# Altium footprint library SparkFun-Connectors.PCBLIB: 344 footprints (part 21 of 22)
Each footprint in its own frame and in the unit in brackets; x right, y up, seen from the top. Pads: shape width x height; smd on the part's side, far side on the other; paste and mask are expansions set on the pad; w line width, h text height; cw(c..) or ccw(c..) is an arc to the next point about the centre after c.
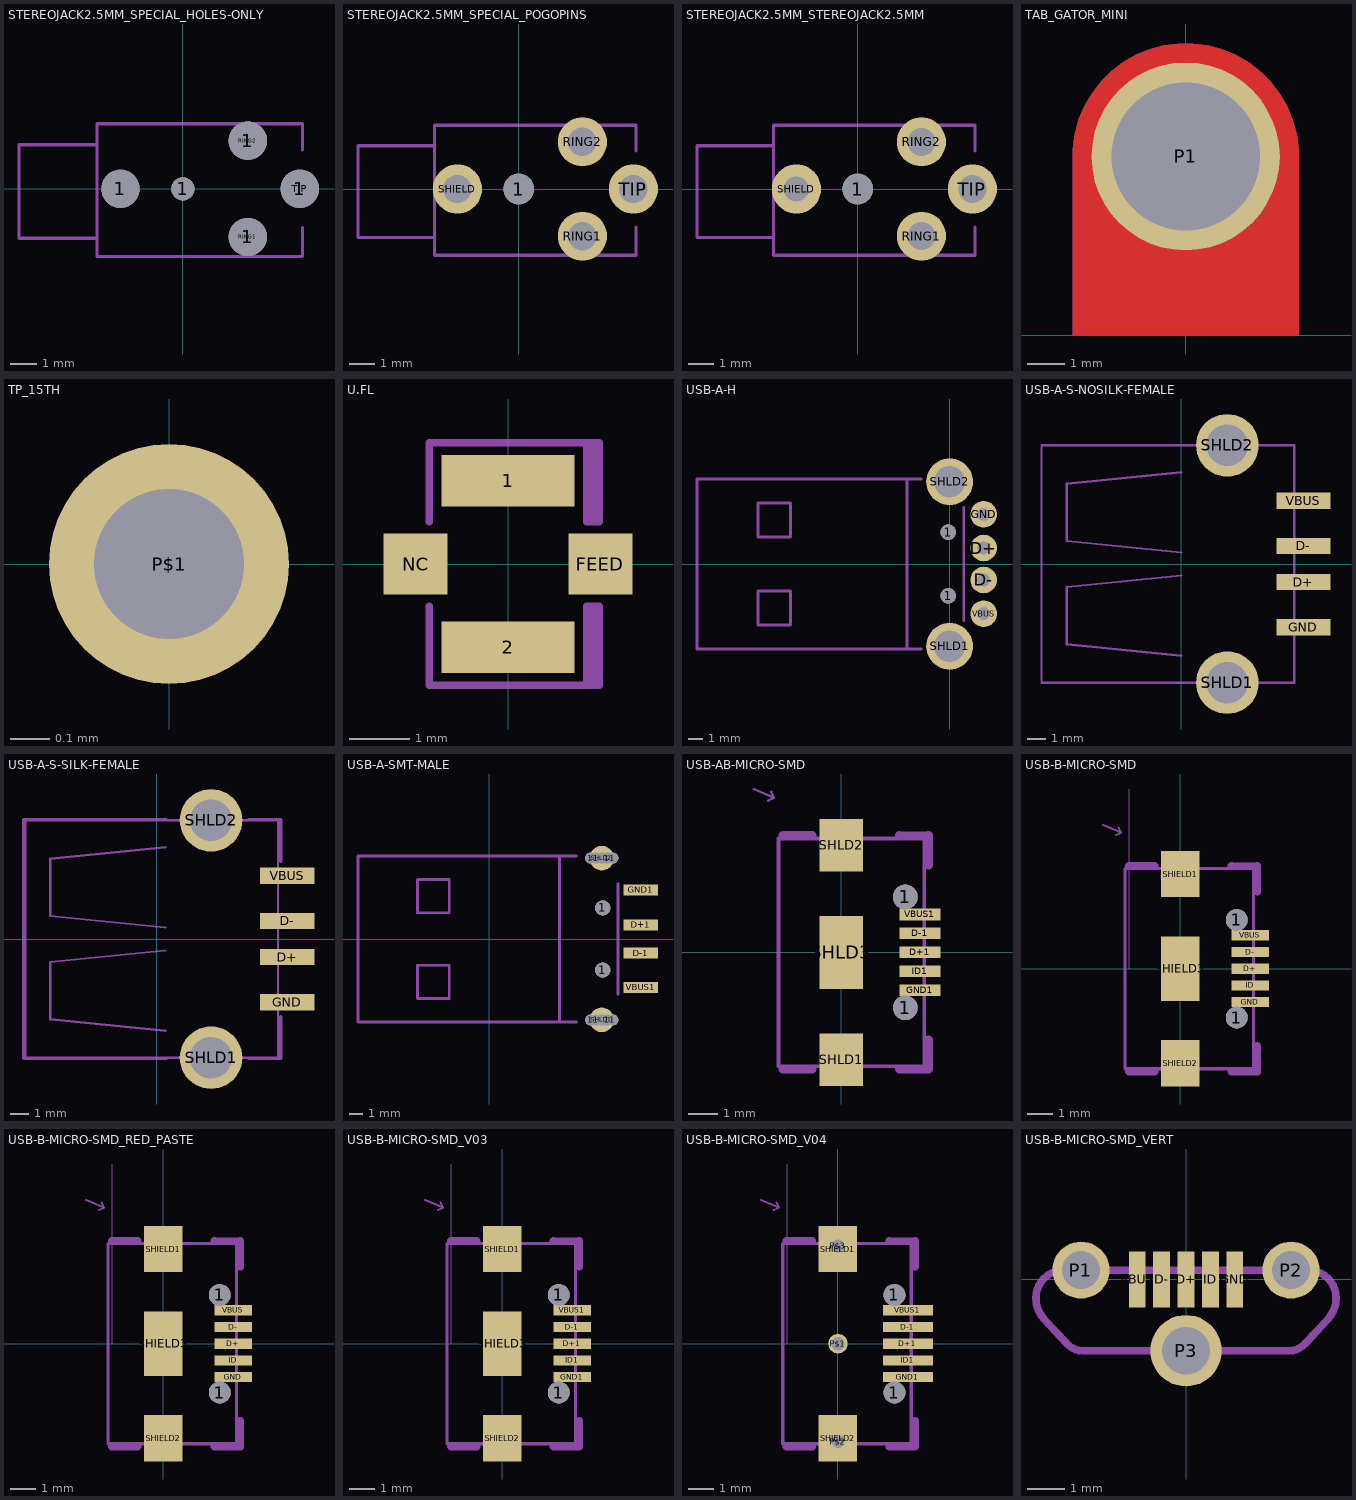
[diagram p20: the footprints below, top view; thin cyan lines are the x and y axes]

## STEREOJACK2.5MM_SPECIAL_HOLES-ONLY [mil]
pads (9):
  round 58 hole 58 unplated: 1(-94.49,0) 1(98.43,-72.83) 1(98.43,72.83) 1(177.17,0)
  round 35 hole 35 unplated: 1(0,0)
  round 35 / inner round 60 / far side round 35 hole 35: RING1(98.43,-72.83) RING2(98.43,72.83) SHIELD(-94.49,0) TIP(177.17,0)
Mechanical 22:
  lines w5: 181.1,-59.06 181.1,-102.36 -129.92,-102.36 -129.92,-74.8 ; 181.1,59.06 181.1,98.43 -129.92,98.43 -129.92,66.93 ; -129.92,-74.8 -129.92,66.93 ; -129.92,-74.8 -248.03,-74.8 -248.03,66.93 -129.92,66.93

## STEREOJACK2.5MM_SPECIAL_POGOPINS [mil]
pads (5):
  round 47.24 hole 47.24 unplated: 1(0,0)
  round 76 / inner round 60 / far side round 76 hole 44: RING1(98.43,-72.83) RING2(98.43,72.83) SHIELD(-94.49,0) TIP(177.17,0)
Mechanical 22:
  lines w5: 181.1,-59.06 181.1,-102.36 -129.92,-102.36 -129.92,-74.8 ; 181.1,59.06 181.1,98.43 -129.92,98.43 -129.92,66.93 ; -129.92,-74.8 -129.92,66.93 ; -129.92,-74.8 -248.03,-74.8 -248.03,66.93 -129.92,66.93

## STEREOJACK2.5MM_STEREOJACK2.5MM [mil]
pads (5):
  round 47.24 hole 47.24 unplated: 1(0,0)
  round 76 / inner round 60 / far side round 76 hole 43.31: RING1(98.43,-72.83) RING2(98.43,72.83) TIP(177.17,0)
  round 76 / inner round 60 / far side round 76 hole 39.37: SHIELD(-94.49,0)
Mechanical 22:
  lines w5: 181.1,-59.06 181.1,-102.36 -129.92,-102.36 -129.92,-74.8 ; 181.1,59.06 181.1,98.43 -129.92,98.43 -129.92,66.93 ; -129.92,-74.8 -129.92,66.93 ; -129.92,-74.8 -248.03,-74.8 -248.03,66.93 -129.92,66.93

## TAB_GATOR_MINI [mil]
pads (1):
  round 200 / inner round 60 / far side round 200 hole 157.5: P1(0,190)
Top Layer:
  region: 0,310 -7.87,310 -23.46,307.95 -38.66,303.88 -53.19,297.86 -66.81,289.99 -79.29,280.41 -90.41,269.29 -99.99,256.81 -107.86,243.19 -113.88,228.66 -117.95,213.46 -120,197.87 -120,190 -120,0 120,0 120,190 120,197.87 117.95,213.46 113.88,228.66 107.86,243.19 99.99,256.81 90.41,269.29 79.29,280.41 66.81,289.99 53.19,297.86 38.66,303.88 23.46,307.95 7.87,310
Bottom Layer:
  region: 0,310 -7.87,310 -23.46,307.95 -38.66,303.88 -53.19,297.86 -66.81,289.99 -79.29,280.41 -90.41,269.29 -99.99,256.81 -107.86,243.19 -113.88,228.66 -117.95,213.46 -120,197.87 -120,190 -120,0 120,0 120,190 120,197.87 117.95,213.46 113.88,228.66 107.86,243.19 99.99,256.81 90.41,269.29 79.29,280.41 66.81,289.99 53.19,297.86 38.66,303.88 23.46,307.95 7.87,310
Top Solder:
  region: 124,-4 -124,-4 -124,196 -124.27,204.02 -122.53,219.97 -118.54,235.51 -112.4,250.34 -104.23,264.14 -94.18,276.65 -82.46,287.61 -69.31,296.81 -54.99,304.05 -39.79,309.19 -24.01,312.12 -7.98,312.8 0,312 7.73,312.39 23.17,311.15 38.32,307.91 52.91,302.72 66.7,295.66 79.45,286.87 90.94,276.49 100.98,264.7 109.4,251.69 116.04,237.7 120.81,222.97 123.61,207.73 124,200
Bottom Solder:
  region: 125,-2 -123,-2 -123,198 -123.27,206.02 -121.53,221.97 -117.54,237.51 -111.4,252.34 -103.23,266.14 -93.18,278.65 -81.46,289.61 -68.31,298.81 -53.99,306.05 -38.79,311.19 -23.01,314.12 -6.98,314.8 1,314 8.73,314.39 24.17,313.15 39.32,309.91 53.91,304.72 67.7,297.66 80.45,288.87 91.94,278.49 101.98,266.7 110.4,253.69 117.04,239.7 121.81,224.97 124.61,209.73 125,202

## TP_15TH [mil]
pads (1):
  round 24 / inner round 60 / far side round 24 hole 15: P$1(0,0)
Bottom Solder:
  circle w0: c0,0 r15

## U.FL [mm]
pads (4):
  rect 2.2x0.85 smd: 1(0,1.375) 2(0,-1.375)
  rect 1.05x1 smd: FEED(1.525,0) NC(-1.525,0)
Mechanical 22:
  lines w0.127: -1.3,-0.7 -1.3,-2 1.3,-2 ; -1.3,0.7 -1.3,2 1.3,2 ; 1.4,-2 1.4,-0.7 ; 1.4,0.7 1.4,2 ; 1.3,-2 1.3,-0.7 1.5,-0.7 1.5,-2 1.3,-2 ; 1.3,2 1.3,0.7 1.5,0.7 1.5,2 1.3,2

## USB-A-H [mil]
pads (8):
  round 43.31 hole 43.31 unplated: 1(-3.94,-88.58) 1(-3.94,88.58)
  round 74 / inner round 60 / far side round 74 hole 36: D+(94.49,44.37) D-(94.49,-44.37) GND(94.49,137.8) VBUS(94.49,-137.8)
  round 129.91 / inner round 60 / far side round 129.91 hole 86.61: SHLD1(0,-228.35) SHLD2(0,228.35)
Mechanical 8:
  lines w8: -118.11,-236.22 -700.79,-236.22 -700.79,236.22 -118.11,236.22 ; -531.5,-169.29 -531.5,-74.8 -440.94,-74.8 -440.94,-169.29 -531.5,-169.29 ; -531.5,74.8 -531.5,169.29 -440.94,169.29 -440.94,74.8 -531.5,74.8
Mechanical 22:
  lines w8: -78.74,-236.22 -118.11,-236.22 -118.11,236.22 -78.74,236.22 ; 39.37,-157.48 39.37,157.48

## USB-A-S-NOSILK-FEMALE [mil]
pads (6):
  rect 118.11x35.43 smd: D+(265.83,-39.37) D-(265.83,39.37) GND(265.83,-137.8) VBUS(265.83,137.8)
  round 136.5 / inner round 60 / far side round 136.5 hole 91: SHLD1(100,-258.5) SHLD2(100,258.5)
Mechanical 8:
  lines w5: -305,-258.5 245.5,-258.5 ; -305,-255 -305,255 ; -305,258.5 245.5,258.5 ; 0,-200 -250,-175 -250,-50 0,-25 ; 0,25 -250,50 -250,175 0,200 ; 246,-256 246,256

## USB-A-S-SILK-FEMALE [mil]
pads (6):
  rect 118.11x35.43 smd: D+(283.94,-39.37) D-(283.94,39.37) GND(283.94,-137.8) VBUS(283.94,137.8)
  round 136.5 / inner round 60 / far side round 136.5 hole 91: SHLD1(118.11,-258.5) SHLD2(118.11,258.5)
Mechanical 8:
  lines w5: -286.89,-258.5 263.61,-258.5 ; -286.89,-255 -286.89,255 ; -286.89,258.5 263.61,258.5 ; 18.11,-200 -231.89,-175 -231.89,-50 18.11,-25 ; 18.11,25 -231.89,50 -231.89,175 18.11,200 ; 264.11,-256 264.11,256
Mechanical 22:
  lines w8: 20,-260 -290,-260 -290,260 20,260 ; 200,-260 270,-260 270,-170 ; 200,260 270,260 270,170

## USB-A-SMT-MALE [mil]
pads (16):
  round 31.5 hole 31.5 unplated: 1(288.58,-230.32) 1(288.58,230.32) 1(304.33,-230.32) 1(304.33,230.32) 1(335.83,-230.32) 1(335.83,230.32) 1(351.57,-230.32) 1(351.57,230.32)
  round 43.31 hole 43.31 unplated: 1(322.83,-88.58) 1(322.83,88.58)
  rect 98.43x31.5 smd: D+1(431.1,40.43) D-1(431.1,-40.43) GND1(431.1,139.8) VBUS1(431.1,-137.8)
  round 70 / inner round 60 / far side round 70 hole 31.5: SHLD1(320.08,-230.32) SHLD2(320.08,230.32)
Mechanical 8:
  lines w8: 200,-236.22 -374.02,-236.22 -374.02,236.22 200,236.22 ; -204.72,-169.29 -204.72,-74.8 -114.17,-74.8 -114.17,-169.29 -204.72,-169.29 ; -204.72,74.8 -204.72,169.29 -114.17,169.29 -114.17,74.8 -204.72,74.8
Mechanical 22:
  lines w8: 248.03,-236.22 200,-236.22 200,236.22 248.03,236.22 ; 366.14,-157.48 366.14,157.48

## USB-AB-MICRO-SMD [mm]
pads (10):
  round 0.85 hole 0.85 unplated: 1(2.2,-1.9) 1(2.2,1.9)
  rect 1.4x0.4 smd: D+1(2.7,0) D-1(2.7,0.65) GND1(2.7,-1.3) ID1(2.7,-0.65) VBUS1(2.7,1.3)
  rect 1.5x1.8 smd: SHLD1(0,-3.68) SHLD2(0,3.68)
  rect 1.5x2.5 smd: SHLD3(0,0)
Top Paste:
  region: -0.75,2.784 -0.75,4.584 0.75,4.584 0.75,2.784
  region: -0.35,-0.75 -0.35,0.75 0.35,0.75 0.35,-0.75
  region: -0.75,-4.584 -0.75,-2.784 0.75,-2.784 0.75,-4.584
Top Solder:
  region: -0.85,2.684 -0.85,4.684 0.85,4.684 0.85,2.684
  region: -0.85,-4.684 -0.85,-2.684 0.85,-2.684 0.85,-4.684
  region: -0.85,-1.35 -0.85,1.35 0.85,1.35 0.85,-1.35
Mechanical 8:
  lines w0.08: -3,5.6 -2.3,5.3 ; -2.5,5.2 -2.3,5.3 ; -2.4,5.5 -2.3,5.3
Mechanical 22:
  lines w0.305: -2,-4 -1,-4 ; -2,4 -1,4 ; 2,-4 3,-4 3,-3 ; 2,4 2,3.993 2.982,3.993 ; 3,3 3,4
Mech35:
  lines w0.127: -2.15,-3.9 -2.15,3.9 2.85,3.9 2.85,-3.9 -2.15,-3.9

## USB-B-MICRO-SMD [mm]
pads (10):
  round 0.85 hole 0.85 unplated: 1(2.2,-1.9) 1(2.2,1.9)
  rect 1.45x0.4 smd: D+(2.725,0) D-(2.725,0.65) GND(2.725,-1.3) ID(2.725,-0.65) VBUS(2.725,1.3)
  rect 1.5x1.8 smd paste+0 mask+0: SHIELD1(0,3.685) SHIELD2(0,-3.685)
  rect 1.5x2.5 smd paste+0 mask+0: SHIELD3(0,0)
Top Paste:
  region: -0.75,2.784 -0.75,4.584 0.75,4.584 0.75,2.784
  region: -0.35,-0.75 -0.35,0.75 0.35,0.75 0.35,-0.75
  region: -0.75,-4.584 -0.75,-2.784 0.75,-2.784 0.75,-4.584
Top Solder:
  region: -0.85,2.684 -0.85,4.684 0.85,4.684 0.85,2.684
  region: -0.85,-4.684 -0.85,-2.684 0.85,-2.684 0.85,-4.684
  region: -0.85,-1.35 -0.85,1.35 0.85,1.35 0.85,-1.35
Mechanical 8:
  lines w0: -2,0 -2,7
  lines w0.08: -3,5.6 -2.3,5.3 ; -2.5,5.2 -2.3,5.3 ; -2.4,5.5 -2.3,5.3
Mechanical 22:
  lines w0.305: -2,-4 -1,-4 ; -2,4 -1,4 ; 2,-4 3,-4 3,-3 ; 2,4 2,3.993 2.982,3.993 ; 3,3 3,4
Mech35:
  lines w0.127: -2.15,-3.9 -2.15,3.9 2.85,3.9 2.85,-3.9 -2.15,-3.9

## USB-B-MICRO-SMD_RED_PASTE [mm]
pads (10):
  round 0.85 hole 0.85 unplated: 1(2.2,-1.9) 1(2.2,1.9)
  rect 1.45x0.4 smd paste+0: D+(2.725,0) D-(2.725,0.65) ID(2.725,-0.65)
  rect 1.45x0.4 smd: GND(2.725,-1.3) VBUS(2.725,1.3)
  rect 1.5x1.8 smd paste+0 mask+0: SHIELD1(0,3.685) SHIELD2(0,-3.685)
  rect 1.5x2.5 smd paste+0 mask+0: SHIELD3(0,0)
Top Paste:
  region: -0.75,2.784 -0.75,4.584 0.75,4.584 0.75,2.784
  region: -0.35,-0.75 -0.35,0.75 0.35,0.75 0.35,-0.75
  region: -0.75,-4.584 -0.75,-2.784 0.75,-2.784 0.75,-4.584
  region: 2.1,0.5 2.1,0.8 3.35,0.8 3.35,0.5
  region: 2.1,-0.15 2.1,0.15 3.35,0.15 3.35,-0.15
  region: 2.1,-0.8 2.1,-0.5 3.35,-0.5 3.35,-0.8
Top Solder:
  region: -0.85,2.684 -0.85,4.684 0.85,4.684 0.85,2.684
  region: -0.85,-4.684 -0.85,-2.684 0.85,-2.684 0.85,-4.684
  region: -0.85,-1.35 -0.85,1.35 0.85,1.35 0.85,-1.35
Mechanical 8:
  lines w0: -2,0 -2,7
  lines w0.08: -3,5.6 -2.3,5.3 ; -2.5,5.2 -2.3,5.3 ; -2.4,5.5 -2.3,5.3
Mechanical 22:
  lines w0.305: -2,-4 -1,-4 ; -2,4 -1,4 ; 2,-4 3,-4 3,-3 ; 2,4 2,3.993 2.982,3.993 ; 3,3 3,4
Mech35:
  lines w0.127: -2.15,-3.9 -2.15,3.9 2.85,3.9 2.85,-3.9 -2.15,-3.9

## USB-B-MICRO-SMD_V03 [mm]
pads (10):
  round 0.85 hole 0.85 unplated: 1(2.2,-1.9) 1(2.2,1.9)
  rect 1.45x0.4 smd: D+1(2.725,0) D-1(2.725,0.65) GND1(2.725,-1.3) ID1(2.725,-0.65) VBUS1(2.725,1.3)
  rect 1.5x1.8 smd paste+0 mask+0: SHIELD1(0,3.685) SHIELD2(0,-3.685)
  rect 1.5x2.5 smd paste+0 mask+0: SHIELD3(0,0)
Top Paste:
  region: -0.75,2.784 -0.75,4.584 0.75,4.584 0.75,2.784
  region: -0.35,-0.75 -0.35,0.75 0.35,0.75 0.35,-0.75
  region: -0.75,-4.584 -0.75,-2.784 0.75,-2.784 0.75,-4.584
Top Solder:
  region: -0.85,2.684 -0.85,4.684 0.85,4.684 0.85,2.684
  region: -0.85,-4.684 -0.85,-2.684 0.85,-2.684 0.85,-4.684
  region: -0.85,-1.35 -0.85,1.35 0.85,1.35 0.85,-1.35
Mechanical 8:
  lines w0: -2,0 -2,7
  lines w0.08: -3,5.6 -2.3,5.3 ; -2.5,5.2 -2.3,5.3 ; -2.4,5.5 -2.3,5.3
Mechanical 22:
  lines w0.305: -2,-4 -1,-4 ; -2,4 -1,4 ; 2,-4 3,-4 3,-3 ; 2,4 2,3.993 2.982,3.993 ; 3,3 3,4
Mech35:
  lines w0.127: -2.15,-3.9 -2.15,3.9 2.85,3.9 2.85,-3.9 -2.15,-3.9

## USB-B-MICRO-SMD_V04 [mil]
pads (12):
  round 33.46 hole 33.46 unplated: 1(86.61,-74.8) 1(86.61,74.8)
  rect 77.09x15.75 smd: D+1(107.28,0) D-1(107.28,25.59) GND1(107.28,-51.18) ID1(107.28,-25.59) VBUS1(107.28,51.18)
  round 30 / inner round 60 / far side round 30 hole 20: P$1(0,0) P$2(0,-150) P$3(0,150)
  rect 59.06x70.87 smd paste+0 mask+0: SHIELD1(0,145.08) SHIELD2(0,-145.08)
Top Paste:
  region: -29.53,109.61 -29.53,180.47 29.53,180.47 29.53,109.61
  region: -23.78,-39.53 -23.78,39.53 23.78,39.53 23.78,-39.53
  region: -29.53,-180.47 -29.53,-109.61 29.53,-109.61 29.53,-180.47
Top Solder:
  region: -33.46,105.67 -33.46,184.41 33.46,184.41 33.46,105.67
  region: -33.46,-184.41 -33.46,-105.67 33.46,-105.67 33.46,-184.41
  region: -33.46,-53.15 -33.46,53.15 33.46,53.15 33.46,-53.15
Mechanical 8:
  lines w0: -78.74,0 -78.74,275.59
  lines w3.15: -118.11,220.47 -90.55,208.66 ; -98.43,204.72 -90.55,208.66 ; -94.49,216.54 -90.55,208.66
Mechanical 22:
  lines w12: -78.74,-157.48 -39.37,-157.48 ; -78.74,157.48 -39.37,157.48 ; 78.74,-157.48 118.11,-157.48 118.11,-118.11 ; 78.74,157.48 78.74,157.2 117.4,157.2 ; 118.11,118.11 118.11,157.48
Mech35:
  lines w5: -84.65,-153.54 -84.65,153.54 112.2,153.54 112.2,-153.54 -84.65,-153.54

## USB-B-MICRO-SMD_VERT [mil]
pads (8):
  rect 17.72x59.06 smd paste+0: D+(0,0) D-(-25.59,0) GND(51.18,0) ID(25.59,0) VBUS(-51.18,0)
  round 60 hole 40: P1(-110.24,9.84) P2(110.24,9.84)
  round 75 / inner round 60 / far side round 75 hole 50: P3(0,-74.8)
Top Paste:
  region: -56.3,-25.59 -56.3,25.59 -46.06,25.59 -46.06,-25.59
  region: -30.71,-25.59 -30.71,25.59 -20.47,25.59 -20.47,-25.59
  region: -5.12,-25.59 -5.12,25.59 5.12,25.59 5.12,-25.59
  region: 20.47,-25.59 20.47,25.59 30.71,25.59 30.71,-25.59
  region: 46.06,-25.59 46.06,25.59 56.3,25.59 56.3,-25.59
Mechanical 22:
  lines w5: -157.48,-19.56 -157.48,-19.42 ; 157.48,-19.56 157.48,-19.42
  lines w8: -157.48,-19.56 ccw(c-124.62,-19.56) -148.68,-41.94 -124.9,-67.5 ccw(c-108.14,-51.91) -108.14,-74.8 108.14,-74.8 ccw(c108.14,-51.91) 124.9,-67.5 148.68,-41.94 ccw(c124.62,-19.56) 157.48,-19.56 ; -157.48,-19.42 cw(c-128.22,-19.42) -128.22,9.84 128.22,9.84 cw(c128.22,-19.42) 157.48,-19.42